# Altium footprint library TPS22916CNYFPR.PcbLib: 1 footprints
Each footprint in its own frame and in the unit in brackets; x right, y up, seen from the top. Pads: shape width x height; smd on the part's side, far side on the other; paste and mask are expansions set on the pad; w line width, h text height; cw(c..) or ccw(c..) is an arc to the next point about the centre after c.
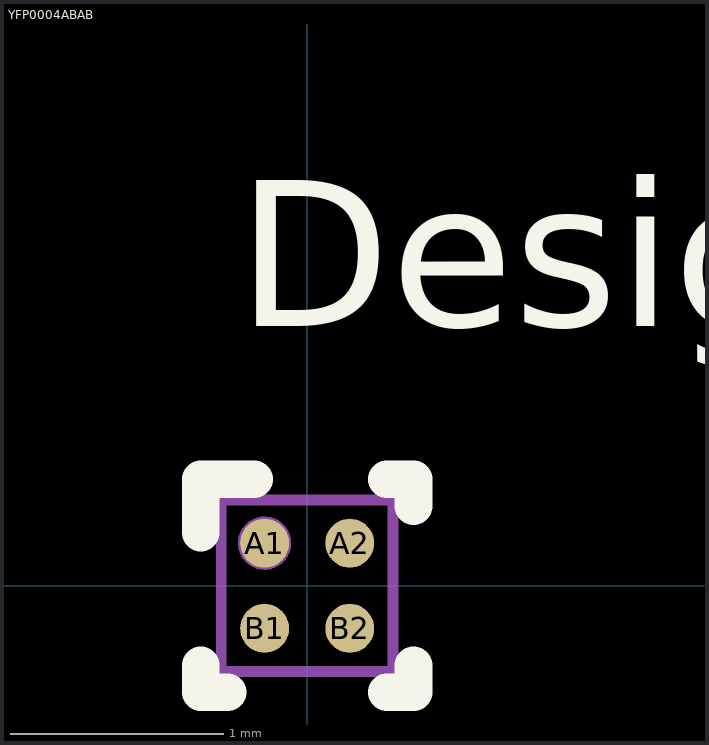
[diagram p0: the footprint, top view; thin cyan lines are the x and y axes]

## YFP0004ABAB [mm]
pads (4):
  round 0.23 smd paste-0.102 mask+0.038: A1(-0.2,0.2) A2(0.2,0.2) B1(-0.2,-0.2) B2(0.2,-0.2)
Top Overlay:
  lines w0.178: -0.5,-0.5 -0.5,-0.375 ; -0.5,0.25 -0.5,0.475 -0.5,0.5 -0.25,0.5 ; -0.475,-0.5 -0.375,-0.5 ; 0.375,-0.5 0.5,-0.5 ; 0.375,0.5 0.475,0.5 ; 0.5,-0.475 0.5,-0.375 ; 0.5,0.375 0.5,0.5
  text "Designator32" at -0.33,1.219 h1.27
  text ".Designator" at -3.492,-0.635 h1.27
Top Paste:
  circle w0.05: c-0.125,-0.125 r0.025
  circle w0.05: c-0.275,-0.275 r0.025
  circle w0.05: c-0.275,-0.125 r0.025
  circle w0.05: c-0.125,-0.275 r0.025
  circle w0.05: c0.275,-0.275 r0.025
  circle w0.05: c0.125,-0.125 r0.025
  circle w0.05: c0.125,-0.275 r0.025
  circle w0.05: c0.275,-0.125 r0.025
  circle w0.05: c-0.125,0.275 r0.025
  circle w0.05: c-0.275,0.125 r0.025
  circle w0.05: c-0.275,0.275 r0.025
  circle w0.05: c-0.125,0.125 r0.025
  circle w0.05: c0.275,0.125 r0.025
  circle w0.05: c0.125,0.275 r0.025
  circle w0.05: c0.125,0.125 r0.025
  circle w0.05: c0.275,0.275 r0.025
  region: -0.275,-0.275 -0.275,-0.325 -0.125,-0.325 -0.125,-0.275
  region: -0.275,-0.125 -0.325,-0.125 -0.325,-0.275 -0.275,-0.275
  region: -0.125,-0.125 -0.125,-0.075 -0.275,-0.075 -0.275,-0.125
  region: -0.125,-0.275 -0.075,-0.275 -0.075,-0.125 -0.125,-0.125
  region: -0.125,-0.125 -0.275,-0.125 -0.275,-0.275 -0.125,-0.275
  region: 0.275,-0.125 0.125,-0.125 0.125,-0.275 0.275,-0.275
  region: 0.275,-0.275 0.325,-0.275 0.325,-0.125 0.275,-0.125
  region: 0.275,-0.125 0.275,-0.075 0.125,-0.075 0.125,-0.125
  region: 0.125,-0.125 0.075,-0.125 0.075,-0.275 0.125,-0.275
  region: 0.125,-0.275 0.125,-0.325 0.275,-0.325 0.275,-0.275
  region: -0.275,0.125 -0.275,0.075 -0.125,0.075 -0.125,0.125
  region: -0.275,0.275 -0.325,0.275 -0.325,0.125 -0.275,0.125
  region: -0.125,0.275 -0.125,0.325 -0.275,0.325 -0.275,0.275
  region: -0.125,0.125 -0.075,0.125 -0.075,0.275 -0.125,0.275
  region: -0.125,0.275 -0.275,0.275 -0.275,0.125 -0.125,0.125
  region: 0.275,0.275 0.125,0.275 0.125,0.125 0.275,0.125
  region: 0.275,0.125 0.325,0.125 0.325,0.275 0.275,0.275
  region: 0.275,0.275 0.275,0.325 0.125,0.325 0.125,0.275
  region: 0.125,0.275 0.075,0.275 0.075,0.125 0.125,0.125
  region: 0.125,0.125 0.125,0.075 0.275,0.075 0.275,0.125
Mechanical 13:
  circle w0.05: c-0.2,0.2 r0.1
  lines w0.05: -0.403,-0.403 -0.403,0.403 0.403,0.403 0.403,-0.403 -0.403,-0.403
  text ".Designator" at -3.492,-0.635 h1.27